# Altium footprint library Passives.PcbLib: 66 footprints (part 4 of 5)
Each footprint in its own frame and in the unit in brackets; x right, y up, seen from the top. Pads: shape width x height; smd on the part's side, far side on the other; paste and mask are expansions set on the pad; w line width, h text height; cw(c..) or ccw(c..) is an arc to the next point about the centre after c.
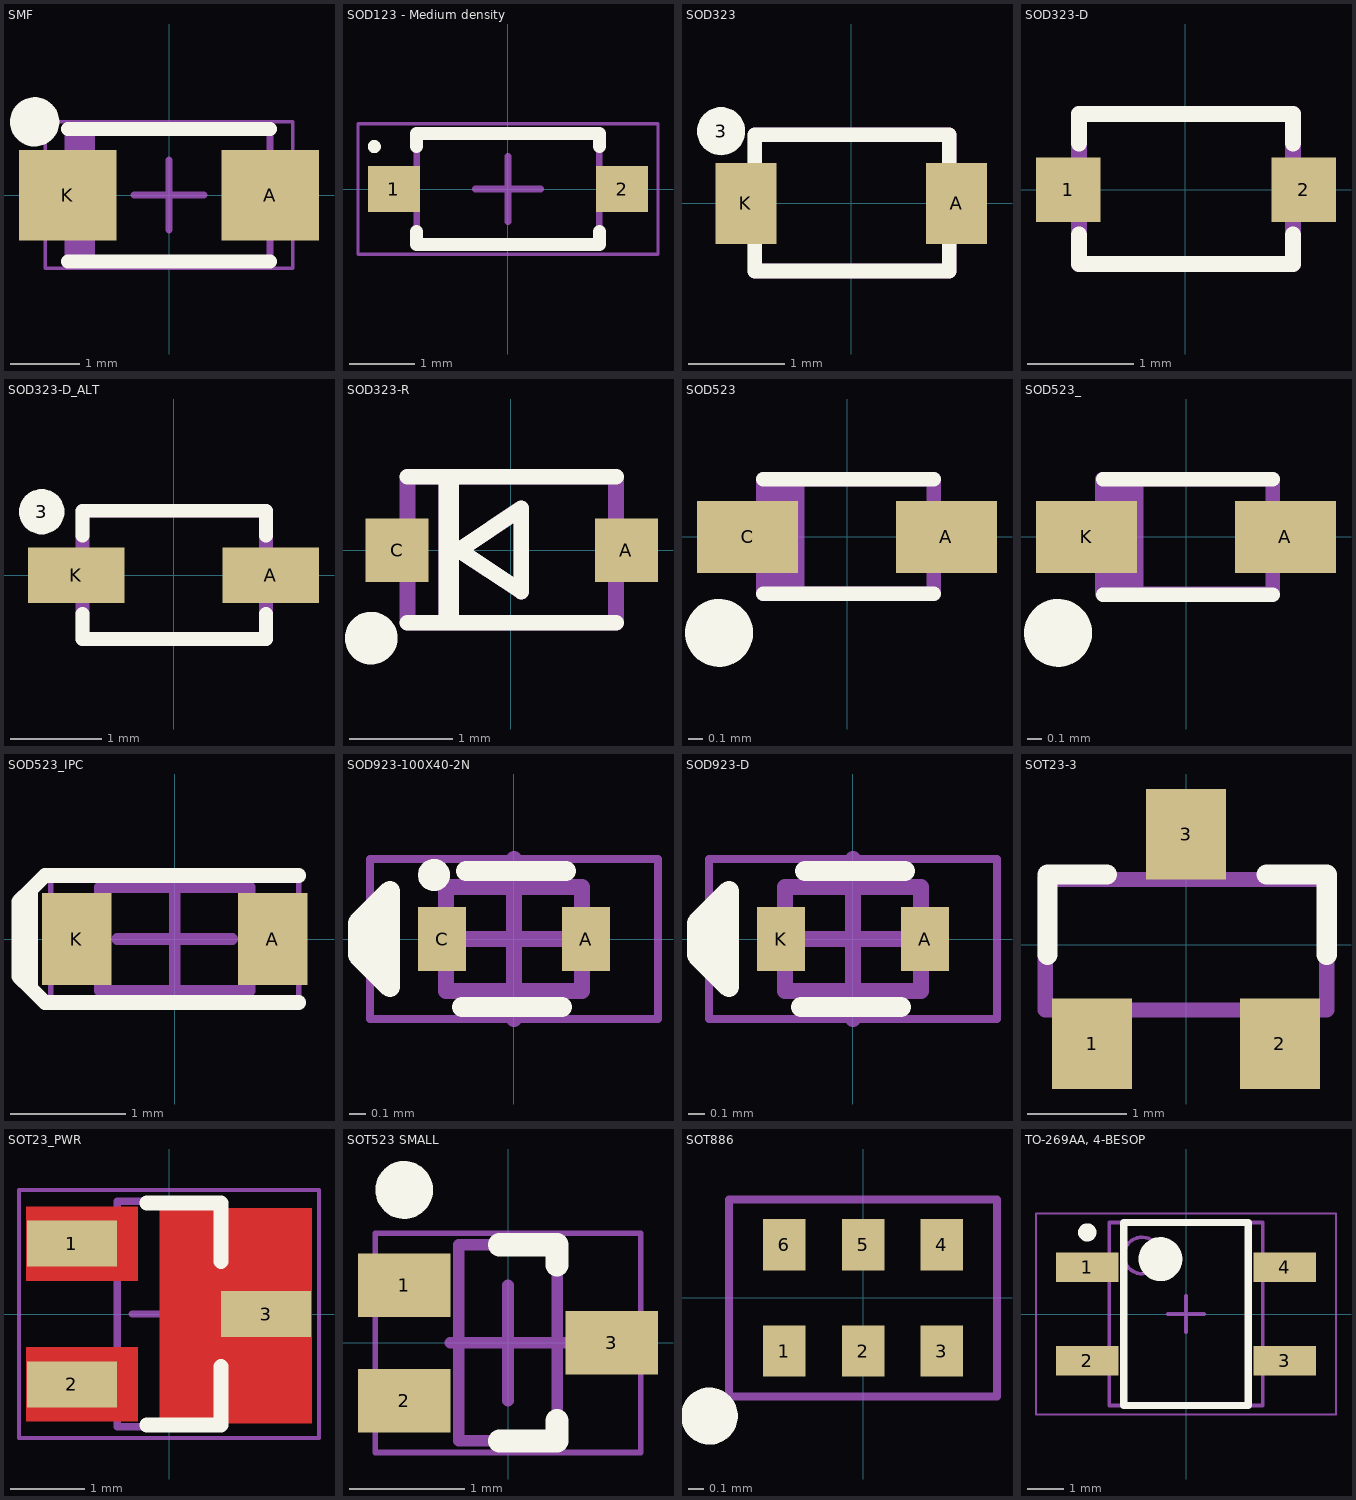
[diagram p3: the footprints below, top view; thin cyan lines are the x and y axes]

## SMF [mm] "Molded Diode, 2-Leads, Body 2.80x1.80mm, IPC High Density"
height 1.08
pads (2):
  rect 1.4x1.3 smd: A(1.45,0) K(-1.45,0)
Top Overlay:
  circle w0.356: c-1.925,1.05 r0.175
  lines w0.2: -1.45,-0.95 1.45,-0.95 ; -1.45,0.95 1.45,0.95
Mechanical 13:
  rectangle: -1.45,-0.95 -1.06,0.95
  lines w0.1: -1.45,-0.95 1.45,-0.95 1.45,0.95 -1.45,0.95 -1.45,-0.95
Mechanical 15:
  lines w0.05: -1.775,-1.05 1.775,-1.05 1.775,1.05 -1.775,1.05 -1.775,-1.05
  lines w0.1: -0.5,0 0.5,0 ; 0,-0.5 0,0.5
3D body: height 1.08, standoff 0, extent -1.45,-0.95 1.45,0.95

## SOD123 - Medium density [mm] "SODFL, 2-Leads, Body 1.60x3.70mm, IPC Medium Density"
height 1.3
pads (2):
  rect 0.8x0.7 smd: 1(-1.75,0) 2(1.75,0)
Top Overlay:
  circle w0.1: c-2.05,0.65 r0.05
  lines w0.2: -1.4,-0.65 -1.4,-0.85 1.4,-0.85 1.4,-0.65 ; -1.4,0.65 -1.4,0.85 1.4,0.85 1.4,0.65
Top Assembly:
  lines w0.1: -1.4,-0.85 1.4,-0.85 1.4,0.85 -1.4,0.85 -1.4,-0.85
Top Courtyard:
  lines w0.05: -2.3,-1 2.3,-1 2.3,1 -2.3,1 -2.3,-1
  lines w0.1: -0.5,0 0.5,0 ; 0,-0.5 0,0.5
3D body: height 1.3, standoff 0, extent -1.4,-0.85 1.4,0.85

## SOD323 [mm]
height 0.6
pads (3):
  round 0.5 on Top Overlay: 3(-1.35,0.75)
  rect 0.635x0.838 smd mask+0.051: A(1.092,0) K(-1.092,0)
Top Overlay:
  lines w0.152: -1,-0.425 -1,-0.7 1.016,-0.7 1.016,-0.425 ; -1,0.436 -1,0.711 1.016,0.711 1.016,0.436
Mechanical 8:
  lines w0.152: -1,-0.7 1.016,-0.7 1.016,0.711 -1,0.711 -1,-0.7
3D body: height 0.7, standoff 0, extent -1.076,-0.776 1.092,0.787
3D body: height 0.4, standoff 0, extent -1.27,-0.127 -0.889,0.127
3D body: height 0.4, standoff 0, extent 0.889,-0.127 1.27,0.127

## SOD323-D [mil]
height 23.62
pads (2):
  rect 24x24 smd: 1(-43.31,0) 2(44,0)
Top Overlay:
  lines w6: -39.37,-16.73 -39.37,-27.56 40,-27.56 40,-16.73 ; -39.37,17.17 -39.37,28 40,28 40,17.17
Mechanical 8:
  lines w6: -39.37,-27.56 -39.37,28 40,28 40,-27.56 -39.37,-27.56
3D body: height 15.75, standoff 0, extent 35,-5 50,5
3D body: height 15.75, standoff 0, extent -50,-5 -35,5
3D body: height 27.56, standoff 0, extent -42.37,-30.56 43,31

## SOD323-D_ALT [mm]
height 0.6
pads (3):
  round 0.5 on Top Overlay: 3(-1.45,0.7)
  rect 1.06x0.61 smd: A(1.07,0) K(-1.07,0)
Top Overlay:
  lines w0.152: -1,-0.425 -1,-0.7 1.016,-0.7 1.016,-0.425 ; -1,0.436 -1,0.711 1.016,0.711 1.016,0.436
Mechanical 8:
  lines w0.152: -1,-0.7 -1,0.711 1.016,0.711 1.016,-0.7 -1,-0.7
3D body: height 0.4, standoff 0, extent 0.889,-0.127 1.27,0.127
3D body: height 0.4, standoff 0, extent -1.27,-0.127 -0.889,0.127
3D body: height 0.7, standoff 0, extent -1.076,-0.776 1.092,0.787

## SOD323-R [mil]
height 23.62
pads (2):
  rect 24x24 smd: A(44,0) C(-43.31,0)
Top Overlay:
  circle w10: c-53.15,-33.46 r5.02
  rectangle: -27.56,-27.56 -19.69,28
  lines w6: -39.37,-27.56 40,-27.56 ; -39.37,28 40,28 ; -19.69,0 4,16 4,-15.75 -19.69,0
Mechanical 8:
  rectangle: -27.56,-27.56 -19.69,28
  lines w6: -39.37,-27.56 -39.37,28 40,28 40,-27.56 -39.37,-27.56 ; -19.69,0 4,-15.75 4,16 -19.69,0
3D body: height 15.75, standoff 0, extent 35,-5 50,5
3D body: height 15.75, standoff 0, extent -50,-5 -35,5
3D body: height 27.56, standoff 0, extent -42.37,-30.56 43,31

## SOD523 [mil]
pads (2):
  rect 28x20 smd: A(27.56,0) C(-27.56,0)
Top Overlay:
  circle w10: c-35.43,-26.57 r4.4
  lines w4: -23.23,-15.75 24,-15.75 ; -23.23,16 24,16
Mechanical 8:
  rectangle: -29.53,-6.69 -21.26,7
  rectangle: 22,-6.69 30,7
  rectangle: -23.23,-15.75 -11.81,16
  lines w4: -23.23,-15.75 24,-15.75 24,16 -23.23,16 -23.23,-15.75
3D body: height 27.56, standoff 0, extent -23.21,-15.73 23.98,15.98
3D body: height 11.81, standoff 0, extent -29.53,-4.92 29.53,4.92

## SOD523_ [mil]
pads (2):
  rect 28x20 smd: A(27.56,0) K(-27.56,0)
Top Overlay:
  circle w10: c-35.43,-26.57 r4.4
  lines w4: -23,-16 24,-16 ; -23,16 24,16
Mechanical 8:
  rectangle: -23.23,-15.75 -11.81,16
  rectangle: 22,-6.69 30,7
  rectangle: -29.53,-6.69 -21.26,7
  lines w4: -23.23,-15.75 -23.23,16 24,16 24,-15.75 -23.23,-15.75
3D body: height 11.81, standoff 0, extent -29.53,-4.92 29.53,4.92
3D body: height 27.56, standoff 0, extent -23.21,-15.73 23.98,15.98

## SOD523_IPC [mm]
height 0.65
pads (2):
  rect 0.6x0.8 smd: A(0.85,0) K(-0.85,0)
Top Overlay:
  lines w0.127: 1.075,-0.55 -1.075,-0.55 -1.125,-0.55 -1.25,-0.425 ; 1.075,0.55 -1.075,0.55 -1.125,0.55 -1.25,0.425 ; -1.25,-0.425 -1.35,-0.325 -1.35,0.325 -1.25,0.425 ; -1.25,-0.425 -1.25,0.425
Mechanical 13:
  lines w0.1: -0.65,-0.45 -0.65,0.45 0.65,0.45 0.65,-0.45 -0.65,-0.45
Mechanical 15:
  lines w0.05: -1.075,-0.55 -1.075,0.55 1.075,0.55 1.075,-0.55 -1.075,-0.55
  lines w0.1: -0.5,0 0.5,0 ; 0,-0.5 0,0.5
3D body: height 0.65, standoff 0, extent -0.65,-0.45 0.65,0.45

## SOD923-100X40-2N [mm] "SODFL, 2-Leads, Body 0.60x1.00mm, IPC Medium Density"
height 0.4
pads (2):
  rect 0.3x0.4 smd paste-0.025: A(0.45,0) C(-0.45,0)
Top Overlay:
  circle w0.1: c-0.5,0.4 r0.05
  lines w0.127: -0.325,-0.425 0.3,-0.425 ; -0.3,0.425 0.325,0.425 ; -0.875,0.2 -0.975,0.1 -0.975,-0.1 -0.775,-0.3 ; -0.875,0.2 -0.875,-0.2 -0.775,-0.3 ; -0.875,0.2 -0.775,0.3 -0.775,-0.3
Mechanical 13:
  lines w0.1: -0.425,-0.325 -0.425,0.325 0.425,0.325 0.425,-0.325 -0.425,-0.325
Mechanical 15:
  lines w0.05: -0.9,-0.5 -0.9,0.5 0.9,0.5 0.9,-0.5 -0.9,-0.5
  lines w0.1: -0.5,0 0.5,0 ; 0,-0.5 0,0.5
3D body: height 0.4, standoff 0, extent -0.425,-0.325 0.425,0.325

## SOD923-D [mm] "SODFL, 2-Leads, Body 0.60x1.00mm, IPC Medium Density"
height 0.4
pads (2):
  rect 0.3x0.4 smd paste-0.025: A(0.45,0) K(-0.45,0)
Top Overlay:
  lines w0.127: -0.325,-0.425 0.3,-0.425 ; -0.3,0.425 0.325,0.425 ; -0.875,0.2 -0.975,0.1 -0.975,-0.1 -0.775,-0.3 ; -0.875,0.2 -0.875,-0.2 -0.775,-0.3 ; -0.875,0.2 -0.775,0.3 -0.775,-0.3
Mechanical 13:
  lines w0.1: -0.425,-0.325 -0.425,0.325 0.425,0.325 0.425,-0.325 -0.425,-0.325
Mechanical 15:
  lines w0.05: -0.9,-0.5 -0.9,0.5 0.9,0.5 0.9,-0.5 -0.9,-0.5
  lines w0.1: -0.5,0 0.5,0 ; 0,-0.5 0,0.5
3D body: height 0.4, standoff 0, extent -0.425,-0.325 0.425,0.325

## SOT23-3 [mil]
pads (3):
  rect 32x36 smd: 1(-37.4,-39.37) 2(37.4,-39.37) 3(0,44)
Top Overlay:
  lines w8: -55.12,-3.94 -55.12,28 -31.5,28 ; 32,28 56,28 56,-3.94
Mechanical 8:
  lines w6: -56,-26 56,-26 56,26 -56,26 -56,-26
3D body: height 15.75, standoff 0, extent 27.5,-45 52.5,-25
3D body: height 15.75, standoff 0, extent -47.5,-45 -22.5,-25
3D body: height 15.75, standoff 0, extent -10,27.5 10,52.5
3D body: height 44.09, standoff 0, extent -59,-29 59,29

## SOT23_PWR [mm]
height 1.12
pads (3):
  rect 1.22x0.62 smd mask+0.051: 1(-1.31,0.95) 2(-1.31,-0.95) 3(1.31,0)
Top Layer:
  region: -1.925,0.45 -0.425,0.45 -0.425,1.45 -1.925,1.45
  region: -1.925,-1.45 -0.425,-1.45 -0.425,-0.45 -1.925,-0.45
  region: -0.125,-1.475 1.925,-1.475 1.925,1.425 -0.125,1.425
Top Overlay:
  lines w0.2: -0.3,-1.5 0.7,-1.5 0.7,-0.71 ; -0.3,1.5 0.7,1.5 0.7,0.71
Mechanical 13:
  lines w0.1: -0.7,-1.52 -0.7,1.52 0.7,1.52 0.7,-1.52 -0.7,-1.52
Mechanical 15:
  lines w0.05: -2.025,-1.675 -2.025,1.675 2.025,1.675 2.025,-1.675 -2.025,-1.675
  lines w0.1: -0.5,0 0.5,0 ; 0,-0.5 0,0.5
3D body "SOT23_PWR.step": height 1.12, standoff 0, extent -1.32,-1.52 1.32,1.52

## SOT523 SMALL [mm]
height 0.8
pads (3):
  rect 0.8x0.55 smd: 1(-0.9,0.5) 2(-0.9,-0.5) 3(0.9,0)
Top Overlay:
  circle w0.25: c-0.9,1.325 r0.125
  lines w0.2: -0.075,-0.85 0.425,-0.85 0.425,-0.675 ; -0.075,0.85 0.425,0.85 0.425,0.675
Mechanical 13:
  lines w0.1: -0.425,-0.85 0.425,-0.85 0.425,0.85 -0.425,0.85 -0.425,-0.85
Mechanical 15:
  lines w0.05: -1.15,-0.95 1.15,-0.95 1.15,0.95 -1.15,0.95 -1.15,-0.95
  lines w0.1: -0.5,0 0.5,0 ; 0,-0.5 0,0.5
3D body: height 0.8, standoff 0.1, extent -0.425,-0.85 0.425,0.85

## SOT886 [mm]
pads (6):
  rect 0.27x0.325 smd paste-5: 1(-0.5,-0.337) 2(0,-0.337) 3(0.5,-0.337) 4(0.5,0.337) 5(0,0.337) 6(-0.5,0.337)
Top Overlay:
  circle w0.203: c-0.975,-0.75 r0.079
Top Paste:
  rectangle: -0.63,-0.49 -0.37,-0.185
  rectangle: -0.13,-0.49 0.13,-0.185
  rectangle: 0.37,-0.49 0.63,-0.185
  rectangle: 0.37,0.185 0.63,0.489
  rectangle: -0.13,0.185 0.13,0.49
  rectangle: -0.63,0.184 -0.37,0.489
Mechanical 15:
  lines w0.05: -0.85,-0.625 0.85,-0.625 0.85,0.625 -0.85,0.625 -0.85,-0.625
3D body: height 0.54, standoff 0.04, extent -0.75,-0.525 0.75,0.525

## TO-269AA, 4-BESOP [mm]
height 2.7
pads (4):
  rect 1.7x0.8 smd: 1(-2.7,1.28) 2(-2.7,-1.28) 3(2.7,-1.28) 4(2.7,1.28)
Top Overlay:
  circle w0.6: c-0.7,1.5 r0.3
  circle w0.25: c-2.7,2.23 r0.125
  lines w0.2: -1.7,-2.5 1.7,-2.5 1.7,2.5 -1.7,2.5 -1.7,-2.5
Top Assembly:
  circle w0.1: c-1.2,1.6 r0.5
  lines w0.1: -2.1,-2.5 2.1,-2.5 2.1,2.5 -2.1,2.5 -2.1,-2.5
Top Courtyard:
  lines w0.05: -4.1,-2.75 4.1,-2.75 4.1,2.75 -4.1,2.75 -4.1,-2.75
  lines w0.1: -0.5,0 0.5,0 ; 0,-0.5 0,0.5
3D body: height 2.7, standoff 0.2, extent -2.1,-2.5 2.1,2.5